# Altium integrated library Linear Technology Power Management System Supervisor, Monitor and Control.IntLib: 1611 symbols (part 23 of 100)
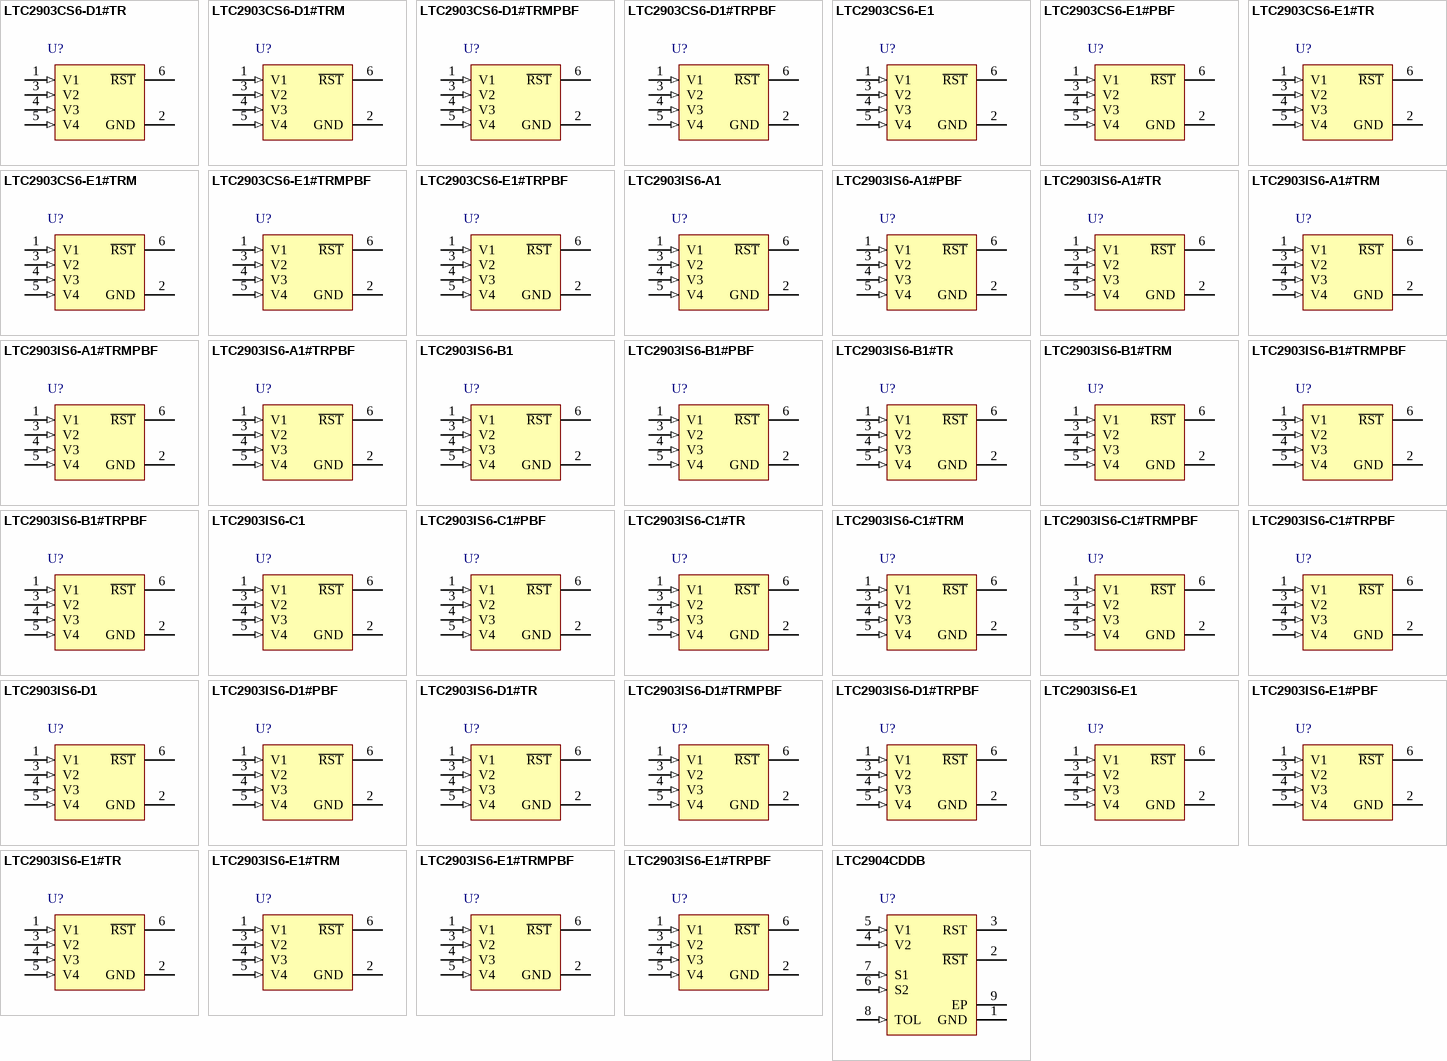
[diagram p67: symbols LTC2903CS6-D1#TR to LTC2904CDDB]

## LTC2903IS6-A1#TRM
designator U?
Precision Quad Supply Monitor, 6-pin SOT23 (S6-6), -40 to 85 degC, Mini Tape and Reel; Manufacturer: Linear Technology; PartNumber: LTC2903IS6-A1#TRM; Number of Supplies(#): 4; PackageVersion: Jun-10; PackageReference: S6-6; PackageDescription: 6-Pin Plastic TSOT-23, Body 2.9 x 1.63 mm, Pitch 0.95 mm; Supplier 1: Digi-Key; Supplier Part Number 1: LTC2903IS6-A1#TRM-ND; Packing: Mini Tape and Reel; RoHS: FALSE; Mounting Technology: Surface Mount; Code_JEDEC: MO-193; ComponentLink1Description: Manufacturer URL; ComponentLink1URL: http://www.linear.com/; ComponentLink2Description: Datasheet; ComponentLink2URL: http://cds.linear.com/docs/en/datasheet/29031fa.pdf; ComponentLink3Description: Package Specification; ComponentLink3URL: http://cds.linear.com/docs/en/packaging/SOT_6_05-08-1636.pdf
footprint LT-S6-6-TSOT-23_N (SOT23, 6-Leads, Body 2.9x1.75mm, Pitch 0.95mm, IPC Medium Density)
footprint LT-S6-6-TSOT-23_L (SOT23, 6-Leads, Body 2.9x1.75mm, Pitch 0.95mm, IPC High Density)
footprint LT-S6-6-TSOT-23_M (SOT23, 6-Leads, Body 2.9x1.75mm, Pitch 0.95mm, IPC Low Density)
pins: 1 V1 (in) "Voltage Input 1. Internal VCC is generated from the greater voltage on the V1 and V2 inputs. VCC = V1 for options D1 and E1. Bypass this pin to ground with a 0.1uF (or greater) capacitor.", 2 GND (power) "Ground.", 3 V2 (in) "Voltage Input 2. Internal VCC is generated from the greater voltage on the V1 and V2 inputs. VCC = V1 for options D1 and E1. For option A1, B1, C1 bypass this pin to ground with a 0.1uF (or greater) capacitor. V2 is an (See Datasheet)", 4 V3 (in) "Voltage Input 3. This input assists the R\S\T\ pulldown circuitry below 1V (for options A1, B1 and C1 only). V3 is an adjustable input for options D1 and E1. See Table 1b for recommended ADJ resistor values.", 5 V4 (in) "Voltage Input 4. Table 1 lists the recommended ADJ resistor values for options A1, B1 and C1. See Table 1b for options D1 and E1.", 6 ~{RST} (oc) "Reset Logic Output. Pulls low when any voltage input is below reset threshold and held low for 200ms after all voltage inputs exceed threshold. The pin contains a weak pull-up to V2 (V1 for options D1 and E1). Use an (See Datasheet)"

## LTC2903IS6-A1#TRMPBF
designator U?
Precision Quad Supply Monitor, 6-pin SOT23 (S6-6), -40 to 85 degC, Pb-Free, Mini Tape and Reel; Manufacturer: Linear Technology; PartNumber: LTC2903IS6-A1#TRMPBF; Number of Supplies(#): 4; PackageVersion: Jun-10; PackageReference: S6-6; PackageDescription: 6-Pin Plastic TSOT-23, Body 2.9 x 1.63 mm, Pitch 0.95 mm; Supplier 1: Digi-Key; Supplier Part Number 1: LTC2903IS6-A1#TRMPBFTR-ND; Supplier 2: Digi-Key; Supplier Part Number 2: LTC2903IS6-A1#TRMPBFCT-ND; Supplier 3: Digi-Key; Supplier Part Number 3: LTC2903IS6-A1#TRMPBFDKR-ND; Supplier 4: Newark; Supplier Part Number 4: 56M6641; Packing: Mini Tape and Reel; RoHS: TRUE; Mounting Technology: Surface Mount; Code_JEDEC: MO-193; ComponentLink1Description: Manufacturer URL; ComponentLink1URL: http://www.linear.com/; ComponentLink2Description: Datasheet; ComponentLink2URL: http://cds.linear.com/docs/en/datasheet/29031fa.pdf; ComponentLink3Description: Package Specification; ComponentLink3URL: http://cds.linear.com/docs/en/packaging/SOT_6_05-08-1636.pdf
footprint LT-S6-6-TSOT-23_N (SOT23, 6-Leads, Body 2.9x1.75mm, Pitch 0.95mm, IPC Medium Density)
footprint LT-S6-6-TSOT-23_L (SOT23, 6-Leads, Body 2.9x1.75mm, Pitch 0.95mm, IPC High Density)
footprint LT-S6-6-TSOT-23_M (SOT23, 6-Leads, Body 2.9x1.75mm, Pitch 0.95mm, IPC Low Density)
pins: 1 V1 (in) "Voltage Input 1. Internal VCC is generated from the greater voltage on the V1 and V2 inputs. VCC = V1 for options D1 and E1. Bypass this pin to ground with a 0.1uF (or greater) capacitor.", 2 GND (power) "Ground.", 3 V2 (in) "Voltage Input 2. Internal VCC is generated from the greater voltage on the V1 and V2 inputs. VCC = V1 for options D1 and E1. For option A1, B1, C1 bypass this pin to ground with a 0.1uF (or greater) capacitor. V2 is an (See Datasheet)", 4 V3 (in) "Voltage Input 3. This input assists the R\S\T\ pulldown circuitry below 1V (for options A1, B1 and C1 only). V3 is an adjustable input for options D1 and E1. See Table 1b for recommended ADJ resistor values.", 5 V4 (in) "Voltage Input 4. Table 1 lists the recommended ADJ resistor values for options A1, B1 and C1. See Table 1b for options D1 and E1.", 6 ~{RST} (oc) "Reset Logic Output. Pulls low when any voltage input is below reset threshold and held low for 200ms after all voltage inputs exceed threshold. The pin contains a weak pull-up to V2 (V1 for options D1 and E1). Use an (See Datasheet)"

## LTC2903IS6-A1#TRPBF
designator U?
Precision Quad Supply Monitor, 6-pin SOT23 (S6-6), -40 to 85 degC, Pb-Free, Tape and Reel; Manufacturer: Linear Technology; PartNumber: LTC2903IS6-A1#TRPBF; Number of Supplies(#): 4; PackageVersion: Jun-10; PackageReference: S6-6; PackageDescription: 6-Pin Plastic TSOT-23, Body 2.9 x 1.63 mm, Pitch 0.95 mm; Supplier 1: Digi-Key; Supplier Part Number 1: LTC2903IS6-A1#TRPBF-ND; Supplier 2: Newark; Supplier Part Number 2: 56M6642; Packing: Tape and Reel; RoHS: TRUE; Mounting Technology: Surface Mount; Code_JEDEC: MO-193; ComponentLink1Description: Manufacturer URL; ComponentLink1URL: http://www.linear.com/; ComponentLink2Description: Datasheet; ComponentLink2URL: http://cds.linear.com/docs/en/datasheet/29031fa.pdf; ComponentLink3Description: Package Specification; ComponentLink3URL: http://cds.linear.com/docs/en/packaging/SOT_6_05-08-1636.pdf
footprint LT-S6-6-TSOT-23_N (SOT23, 6-Leads, Body 2.9x1.75mm, Pitch 0.95mm, IPC Medium Density)
footprint LT-S6-6-TSOT-23_L (SOT23, 6-Leads, Body 2.9x1.75mm, Pitch 0.95mm, IPC High Density)
footprint LT-S6-6-TSOT-23_M (SOT23, 6-Leads, Body 2.9x1.75mm, Pitch 0.95mm, IPC Low Density)
pins: 1 V1 (in) "Voltage Input 1. Internal VCC is generated from the greater voltage on the V1 and V2 inputs. VCC = V1 for options D1 and E1. Bypass this pin to ground with a 0.1uF (or greater) capacitor.", 2 GND (power) "Ground.", 3 V2 (in) "Voltage Input 2. Internal VCC is generated from the greater voltage on the V1 and V2 inputs. VCC = V1 for options D1 and E1. For option A1, B1, C1 bypass this pin to ground with a 0.1uF (or greater) capacitor. V2 is an (See Datasheet)", 4 V3 (in) "Voltage Input 3. This input assists the R\S\T\ pulldown circuitry below 1V (for options A1, B1 and C1 only). V3 is an adjustable input for options D1 and E1. See Table 1b for recommended ADJ resistor values.", 5 V4 (in) "Voltage Input 4. Table 1 lists the recommended ADJ resistor values for options A1, B1 and C1. See Table 1b for options D1 and E1.", 6 ~{RST} (oc) "Reset Logic Output. Pulls low when any voltage input is below reset threshold and held low for 200ms after all voltage inputs exceed threshold. The pin contains a weak pull-up to V2 (V1 for options D1 and E1). Use an (See Datasheet)"

## LTC2903IS6-B1
designator U?
Precision Quad Supply Monitor, 6-pin SOT23 (S6-6), -40 to 85 degC; Manufacturer: Linear Technology; PartNumber: LTC2903IS6-B1; Number of Supplies(#): 4; PackageVersion: Jun-10; PackageReference: S6-6; PackageDescription: 6-Pin Plastic TSOT-23, Body 2.9 x 1.63 mm, Pitch 0.95 mm; RoHS: FALSE; Mounting Technology: Surface Mount; Code_JEDEC: MO-193; ComponentLink1Description: Manufacturer URL; ComponentLink1URL: http://www.linear.com/; ComponentLink2Description: Datasheet; ComponentLink2URL: http://cds.linear.com/docs/en/datasheet/29031fa.pdf; ComponentLink3Description: Package Specification; ComponentLink3URL: http://cds.linear.com/docs/en/packaging/SOT_6_05-08-1636.pdf
footprint LT-S6-6-TSOT-23_N (SOT23, 6-Leads, Body 2.9x1.75mm, Pitch 0.95mm, IPC Medium Density)
footprint LT-S6-6-TSOT-23_L (SOT23, 6-Leads, Body 2.9x1.75mm, Pitch 0.95mm, IPC High Density)
footprint LT-S6-6-TSOT-23_M (SOT23, 6-Leads, Body 2.9x1.75mm, Pitch 0.95mm, IPC Low Density)
pins: 1 V1 (in) "Voltage Input 1. Internal VCC is generated from the greater voltage on the V1 and V2 inputs. VCC = V1 for options D1 and E1. Bypass this pin to ground with a 0.1uF (or greater) capacitor.", 2 GND (power) "Ground.", 3 V2 (in) "Voltage Input 2. Internal VCC is generated from the greater voltage on the V1 and V2 inputs. VCC = V1 for options D1 and E1. For option A1, B1, C1 bypass this pin to ground with a 0.1uF (or greater) capacitor. V2 is an (See Datasheet)", 4 V3 (in) "Voltage Input 3. This input assists the R\S\T\ pulldown circuitry below 1V (for options A1, B1 and C1 only). V3 is an adjustable input for options D1 and E1. See Table 1b for recommended ADJ resistor values.", 5 V4 (in) "Voltage Input 4. Table 1 lists the recommended ADJ resistor values for options A1, B1 and C1. See Table 1b for options D1 and E1.", 6 ~{RST} (oc) "Reset Logic Output. Pulls low when any voltage input is below reset threshold and held low for 200ms after all voltage inputs exceed threshold. The pin contains a weak pull-up to V2 (V1 for options D1 and E1). Use an (See Datasheet)"

## LTC2903IS6-B1#PBF
designator U?
Precision Quad Supply Monitor, 6-pin SOT23 (S6-6), -40 to 85 degC, Pb-Free; Manufacturer: Linear Technology; PartNumber: LTC2903IS6-B1#PBF; Number of Supplies(#): 4; PackageVersion: Jun-10; PackageReference: S6-6; PackageDescription: 6-Pin Plastic TSOT-23, Body 2.9 x 1.63 mm, Pitch 0.95 mm; RoHS: TRUE; Mounting Technology: Surface Mount; Code_JEDEC: MO-193; ComponentLink1Description: Manufacturer URL; ComponentLink1URL: http://www.linear.com/; ComponentLink2Description: Datasheet; ComponentLink2URL: http://cds.linear.com/docs/en/datasheet/29031fa.pdf; ComponentLink3Description: Package Specification; ComponentLink3URL: http://cds.linear.com/docs/en/packaging/SOT_6_05-08-1636.pdf
footprint LT-S6-6-TSOT-23_N (SOT23, 6-Leads, Body 2.9x1.75mm, Pitch 0.95mm, IPC Medium Density)
footprint LT-S6-6-TSOT-23_L (SOT23, 6-Leads, Body 2.9x1.75mm, Pitch 0.95mm, IPC High Density)
footprint LT-S6-6-TSOT-23_M (SOT23, 6-Leads, Body 2.9x1.75mm, Pitch 0.95mm, IPC Low Density)
pins: 1 V1 (in) "Voltage Input 1. Internal VCC is generated from the greater voltage on the V1 and V2 inputs. VCC = V1 for options D1 and E1. Bypass this pin to ground with a 0.1uF (or greater) capacitor.", 2 GND (power) "Ground.", 3 V2 (in) "Voltage Input 2. Internal VCC is generated from the greater voltage on the V1 and V2 inputs. VCC = V1 for options D1 and E1. For option A1, B1, C1 bypass this pin to ground with a 0.1uF (or greater) capacitor. V2 is an (See Datasheet)", 4 V3 (in) "Voltage Input 3. This input assists the R\S\T\ pulldown circuitry below 1V (for options A1, B1 and C1 only). V3 is an adjustable input for options D1 and E1. See Table 1b for recommended ADJ resistor values.", 5 V4 (in) "Voltage Input 4. Table 1 lists the recommended ADJ resistor values for options A1, B1 and C1. See Table 1b for options D1 and E1.", 6 ~{RST} (oc) "Reset Logic Output. Pulls low when any voltage input is below reset threshold and held low for 200ms after all voltage inputs exceed threshold. The pin contains a weak pull-up to V2 (V1 for options D1 and E1). Use an (See Datasheet)"

## LTC2903IS6-B1#TR
designator U?
Precision Quad Supply Monitor, 6-pin SOT23 (S6-6), -40 to 85 degC, Tape and Reel; Manufacturer: Linear Technology; PartNumber: LTC2903IS6-B1#TR; Number of Supplies(#): 4; PackageVersion: Jun-10; PackageReference: S6-6; PackageDescription: 6-Pin Plastic TSOT-23, Body 2.9 x 1.63 mm, Pitch 0.95 mm; Supplier 1: Digi-Key; Supplier Part Number 1: LTC2903IS6-B1#TR-ND; Packing: Tape and Reel; RoHS: FALSE; Mounting Technology: Surface Mount; Code_JEDEC: MO-193; ComponentLink1Description: Manufacturer URL; ComponentLink1URL: http://www.linear.com/; ComponentLink2Description: Datasheet; ComponentLink2URL: http://cds.linear.com/docs/en/datasheet/29031fa.pdf; ComponentLink3Description: Package Specification; ComponentLink3URL: http://cds.linear.com/docs/en/packaging/SOT_6_05-08-1636.pdf
footprint LT-S6-6-TSOT-23_N (SOT23, 6-Leads, Body 2.9x1.75mm, Pitch 0.95mm, IPC Medium Density)
footprint LT-S6-6-TSOT-23_L (SOT23, 6-Leads, Body 2.9x1.75mm, Pitch 0.95mm, IPC High Density)
footprint LT-S6-6-TSOT-23_M (SOT23, 6-Leads, Body 2.9x1.75mm, Pitch 0.95mm, IPC Low Density)
pins: 1 V1 (in) "Voltage Input 1. Internal VCC is generated from the greater voltage on the V1 and V2 inputs. VCC = V1 for options D1 and E1. Bypass this pin to ground with a 0.1uF (or greater) capacitor.", 2 GND (power) "Ground.", 3 V2 (in) "Voltage Input 2. Internal VCC is generated from the greater voltage on the V1 and V2 inputs. VCC = V1 for options D1 and E1. For option A1, B1, C1 bypass this pin to ground with a 0.1uF (or greater) capacitor. V2 is an (See Datasheet)", 4 V3 (in) "Voltage Input 3. This input assists the R\S\T\ pulldown circuitry below 1V (for options A1, B1 and C1 only). V3 is an adjustable input for options D1 and E1. See Table 1b for recommended ADJ resistor values.", 5 V4 (in) "Voltage Input 4. Table 1 lists the recommended ADJ resistor values for options A1, B1 and C1. See Table 1b for options D1 and E1.", 6 ~{RST} (oc) "Reset Logic Output. Pulls low when any voltage input is below reset threshold and held low for 200ms after all voltage inputs exceed threshold. The pin contains a weak pull-up to V2 (V1 for options D1 and E1). Use an (See Datasheet)"

## LTC2903IS6-B1#TRM
designator U?
Precision Quad Supply Monitor, 6-pin SOT23 (S6-6), -40 to 85 degC, Mini Tape and Reel; Manufacturer: Linear Technology; PartNumber: LTC2903IS6-B1#TRM; Number of Supplies(#): 4; PackageVersion: Jun-10; PackageReference: S6-6; PackageDescription: 6-Pin Plastic TSOT-23, Body 2.9 x 1.63 mm, Pitch 0.95 mm; Supplier 1: Digi-Key; Supplier Part Number 1: LTC2903IS6-B1#TRM-ND; Packing: Mini Tape and Reel; RoHS: FALSE; Mounting Technology: Surface Mount; Code_JEDEC: MO-193; ComponentLink1Description: Manufacturer URL; ComponentLink1URL: http://www.linear.com/; ComponentLink2Description: Datasheet; ComponentLink2URL: http://cds.linear.com/docs/en/datasheet/29031fa.pdf; ComponentLink3Description: Package Specification; ComponentLink3URL: http://cds.linear.com/docs/en/packaging/SOT_6_05-08-1636.pdf
footprint LT-S6-6-TSOT-23_N (SOT23, 6-Leads, Body 2.9x1.75mm, Pitch 0.95mm, IPC Medium Density)
footprint LT-S6-6-TSOT-23_L (SOT23, 6-Leads, Body 2.9x1.75mm, Pitch 0.95mm, IPC High Density)
footprint LT-S6-6-TSOT-23_M (SOT23, 6-Leads, Body 2.9x1.75mm, Pitch 0.95mm, IPC Low Density)
pins: 1 V1 (in) "Voltage Input 1. Internal VCC is generated from the greater voltage on the V1 and V2 inputs. VCC = V1 for options D1 and E1. Bypass this pin to ground with a 0.1uF (or greater) capacitor.", 2 GND (power) "Ground.", 3 V2 (in) "Voltage Input 2. Internal VCC is generated from the greater voltage on the V1 and V2 inputs. VCC = V1 for options D1 and E1. For option A1, B1, C1 bypass this pin to ground with a 0.1uF (or greater) capacitor. V2 is an (See Datasheet)", 4 V3 (in) "Voltage Input 3. This input assists the R\S\T\ pulldown circuitry below 1V (for options A1, B1 and C1 only). V3 is an adjustable input for options D1 and E1. See Table 1b for recommended ADJ resistor values.", 5 V4 (in) "Voltage Input 4. Table 1 lists the recommended ADJ resistor values for options A1, B1 and C1. See Table 1b for options D1 and E1.", 6 ~{RST} (oc) "Reset Logic Output. Pulls low when any voltage input is below reset threshold and held low for 200ms after all voltage inputs exceed threshold. The pin contains a weak pull-up to V2 (V1 for options D1 and E1). Use an (See Datasheet)"

## LTC2903IS6-B1#TRMPBF
designator U?
Precision Quad Supply Monitor, 6-pin SOT23 (S6-6), -40 to 85 degC, Pb-Free, Mini Tape and Reel; Manufacturer: Linear Technology; PartNumber: LTC2903IS6-B1#TRMPBF; Number of Supplies(#): 4; PackageVersion: Jun-10; PackageReference: S6-6; PackageDescription: 6-Pin Plastic TSOT-23, Body 2.9 x 1.63 mm, Pitch 0.95 mm; Supplier 1: Digi-Key; Supplier Part Number 1: LTC2903IS6-B1#TRMPBF-ND; Packing: Mini Tape and Reel; RoHS: TRUE; Mounting Technology: Surface Mount; Code_JEDEC: MO-193; ComponentLink1Description: Manufacturer URL; ComponentLink1URL: http://www.linear.com/; ComponentLink2Description: Datasheet; ComponentLink2URL: http://cds.linear.com/docs/en/datasheet/29031fa.pdf; ComponentLink3Description: Package Specification; ComponentLink3URL: http://cds.linear.com/docs/en/packaging/SOT_6_05-08-1636.pdf
footprint LT-S6-6-TSOT-23_N (SOT23, 6-Leads, Body 2.9x1.75mm, Pitch 0.95mm, IPC Medium Density)
footprint LT-S6-6-TSOT-23_L (SOT23, 6-Leads, Body 2.9x1.75mm, Pitch 0.95mm, IPC High Density)
footprint LT-S6-6-TSOT-23_M (SOT23, 6-Leads, Body 2.9x1.75mm, Pitch 0.95mm, IPC Low Density)
pins: 1 V1 (in) "Voltage Input 1. Internal VCC is generated from the greater voltage on the V1 and V2 inputs. VCC = V1 for options D1 and E1. Bypass this pin to ground with a 0.1uF (or greater) capacitor.", 2 GND (power) "Ground.", 3 V2 (in) "Voltage Input 2. Internal VCC is generated from the greater voltage on the V1 and V2 inputs. VCC = V1 for options D1 and E1. For option A1, B1, C1 bypass this pin to ground with a 0.1uF (or greater) capacitor. V2 is an (See Datasheet)", 4 V3 (in) "Voltage Input 3. This input assists the R\S\T\ pulldown circuitry below 1V (for options A1, B1 and C1 only). V3 is an adjustable input for options D1 and E1. See Table 1b for recommended ADJ resistor values.", 5 V4 (in) "Voltage Input 4. Table 1 lists the recommended ADJ resistor values for options A1, B1 and C1. See Table 1b for options D1 and E1.", 6 ~{RST} (oc) "Reset Logic Output. Pulls low when any voltage input is below reset threshold and held low for 200ms after all voltage inputs exceed threshold. The pin contains a weak pull-up to V2 (V1 for options D1 and E1). Use an (See Datasheet)"

## LTC2903IS6-B1#TRPBF
designator U?
Precision Quad Supply Monitor, 6-pin SOT23 (S6-6), -40 to 85 degC, Pb-Free, Tape and Reel; Manufacturer: Linear Technology; PartNumber: LTC2903IS6-B1#TRPBF; Number of Supplies(#): 4; PackageVersion: Jun-10; PackageReference: S6-6; PackageDescription: 6-Pin Plastic TSOT-23, Body 2.9 x 1.63 mm, Pitch 0.95 mm; Supplier 1: Digi-Key; Supplier Part Number 1: LTC2903IS6-B1#TRPBF-ND; Packing: Tape and Reel; RoHS: TRUE; Mounting Technology: Surface Mount; Code_JEDEC: MO-193; ComponentLink1Description: Manufacturer URL; ComponentLink1URL: http://www.linear.com/; ComponentLink2Description: Datasheet; ComponentLink2URL: http://cds.linear.com/docs/en/datasheet/29031fa.pdf; ComponentLink3Description: Package Specification; ComponentLink3URL: http://cds.linear.com/docs/en/packaging/SOT_6_05-08-1636.pdf
footprint LT-S6-6-TSOT-23_N (SOT23, 6-Leads, Body 2.9x1.75mm, Pitch 0.95mm, IPC Medium Density)
footprint LT-S6-6-TSOT-23_L (SOT23, 6-Leads, Body 2.9x1.75mm, Pitch 0.95mm, IPC High Density)
footprint LT-S6-6-TSOT-23_M (SOT23, 6-Leads, Body 2.9x1.75mm, Pitch 0.95mm, IPC Low Density)
pins: 1 V1 (in) "Voltage Input 1. Internal VCC is generated from the greater voltage on the V1 and V2 inputs. VCC = V1 for options D1 and E1. Bypass this pin to ground with a 0.1uF (or greater) capacitor.", 2 GND (power) "Ground.", 3 V2 (in) "Voltage Input 2. Internal VCC is generated from the greater voltage on the V1 and V2 inputs. VCC = V1 for options D1 and E1. For option A1, B1, C1 bypass this pin to ground with a 0.1uF (or greater) capacitor. V2 is an (See Datasheet)", 4 V3 (in) "Voltage Input 3. This input assists the R\S\T\ pulldown circuitry below 1V (for options A1, B1 and C1 only). V3 is an adjustable input for options D1 and E1. See Table 1b for recommended ADJ resistor values.", 5 V4 (in) "Voltage Input 4. Table 1 lists the recommended ADJ resistor values for options A1, B1 and C1. See Table 1b for options D1 and E1.", 6 ~{RST} (oc) "Reset Logic Output. Pulls low when any voltage input is below reset threshold and held low for 200ms after all voltage inputs exceed threshold. The pin contains a weak pull-up to V2 (V1 for options D1 and E1). Use an (See Datasheet)"

## LTC2903IS6-C1
designator U?
Precision Quad Supply Monitor, 6-pin SOT23 (S6-6), -40 to 85 degC; Manufacturer: Linear Technology; PartNumber: LTC2903IS6-C1; Number of Supplies(#): 4; PackageVersion: Jun-10; PackageReference: S6-6; PackageDescription: 6-Pin Plastic TSOT-23, Body 2.9 x 1.63 mm, Pitch 0.95 mm; RoHS: FALSE; Mounting Technology: Surface Mount; Code_JEDEC: MO-193; ComponentLink1Description: Manufacturer URL; ComponentLink1URL: http://www.linear.com/; ComponentLink2Description: Datasheet; ComponentLink2URL: http://cds.linear.com/docs/en/datasheet/29031fa.pdf; ComponentLink3Description: Package Specification; ComponentLink3URL: http://cds.linear.com/docs/en/packaging/SOT_6_05-08-1636.pdf
footprint LT-S6-6-TSOT-23_N (SOT23, 6-Leads, Body 2.9x1.75mm, Pitch 0.95mm, IPC Medium Density)
footprint LT-S6-6-TSOT-23_L (SOT23, 6-Leads, Body 2.9x1.75mm, Pitch 0.95mm, IPC High Density)
footprint LT-S6-6-TSOT-23_M (SOT23, 6-Leads, Body 2.9x1.75mm, Pitch 0.95mm, IPC Low Density)
pins: 1 V1 (in) "Voltage Input 1. Internal VCC is generated from the greater voltage on the V1 and V2 inputs. VCC = V1 for options D1 and E1. Bypass this pin to ground with a 0.1uF (or greater) capacitor.", 2 GND (power) "Ground.", 3 V2 (in) "Voltage Input 2. Internal VCC is generated from the greater voltage on the V1 and V2 inputs. VCC = V1 for options D1 and E1. For option A1, B1, C1 bypass this pin to ground with a 0.1uF (or greater) capacitor. V2 is an (See Datasheet)", 4 V3 (in) "Voltage Input 3. This input assists the R\S\T\ pulldown circuitry below 1V (for options A1, B1 and C1 only). V3 is an adjustable input for options D1 and E1. See Table 1b for recommended ADJ resistor values.", 5 V4 (in) "Voltage Input 4. Table 1 lists the recommended ADJ resistor values for options A1, B1 and C1. See Table 1b for options D1 and E1.", 6 ~{RST} (oc) "Reset Logic Output. Pulls low when any voltage input is below reset threshold and held low for 200ms after all voltage inputs exceed threshold. The pin contains a weak pull-up to V2 (V1 for options D1 and E1). Use an (See Datasheet)"

## LTC2903IS6-C1#PBF
designator U?
Precision Quad Supply Monitor, 6-pin SOT23 (S6-6), -40 to 85 degC, Pb-Free; Manufacturer: Linear Technology; PartNumber: LTC2903IS6-C1#PBF; Number of Supplies(#): 4; PackageVersion: Jun-10; PackageReference: S6-6; PackageDescription: 6-Pin Plastic TSOT-23, Body 2.9 x 1.63 mm, Pitch 0.95 mm; Supplier 1: Newark; Supplier Part Number 1: 78T2992; RoHS: TRUE; Mounting Technology: Surface Mount; Code_JEDEC: MO-193; ComponentLink1Description: Manufacturer URL; ComponentLink1URL: http://www.linear.com/; ComponentLink2Description: Datasheet; ComponentLink2URL: http://cds.linear.com/docs/en/datasheet/29031fa.pdf; ComponentLink3Description: Package Specification; ComponentLink3URL: http://cds.linear.com/docs/en/packaging/SOT_6_05-08-1636.pdf
footprint LT-S6-6-TSOT-23_N (SOT23, 6-Leads, Body 2.9x1.75mm, Pitch 0.95mm, IPC Medium Density)
footprint LT-S6-6-TSOT-23_L (SOT23, 6-Leads, Body 2.9x1.75mm, Pitch 0.95mm, IPC High Density)
footprint LT-S6-6-TSOT-23_M (SOT23, 6-Leads, Body 2.9x1.75mm, Pitch 0.95mm, IPC Low Density)
pins: 1 V1 (in) "Voltage Input 1. Internal VCC is generated from the greater voltage on the V1 and V2 inputs. VCC = V1 for options D1 and E1. Bypass this pin to ground with a 0.1uF (or greater) capacitor.", 2 GND (power) "Ground.", 3 V2 (in) "Voltage Input 2. Internal VCC is generated from the greater voltage on the V1 and V2 inputs. VCC = V1 for options D1 and E1. For option A1, B1, C1 bypass this pin to ground with a 0.1uF (or greater) capacitor. V2 is an (See Datasheet)", 4 V3 (in) "Voltage Input 3. This input assists the R\S\T\ pulldown circuitry below 1V (for options A1, B1 and C1 only). V3 is an adjustable input for options D1 and E1. See Table 1b for recommended ADJ resistor values.", 5 V4 (in) "Voltage Input 4. Table 1 lists the recommended ADJ resistor values for options A1, B1 and C1. See Table 1b for options D1 and E1.", 6 ~{RST} (oc) "Reset Logic Output. Pulls low when any voltage input is below reset threshold and held low for 200ms after all voltage inputs exceed threshold. The pin contains a weak pull-up to V2 (V1 for options D1 and E1). Use an (See Datasheet)"

## LTC2903IS6-C1#TR
designator U?
Precision Quad Supply Monitor, 6-pin SOT23 (S6-6), -40 to 85 degC, Tape and Reel; Manufacturer: Linear Technology; PartNumber: LTC2903IS6-C1#TR; Number of Supplies(#): 4; PackageVersion: Jun-10; PackageReference: S6-6; PackageDescription: 6-Pin Plastic TSOT-23, Body 2.9 x 1.63 mm, Pitch 0.95 mm; Supplier 1: Digi-Key; Supplier Part Number 1: LTC2903IS6-C1#TR-ND; Packing: Tape and Reel; RoHS: FALSE; Mounting Technology: Surface Mount; Code_JEDEC: MO-193; ComponentLink1Description: Manufacturer URL; ComponentLink1URL: http://www.linear.com/; ComponentLink2Description: Datasheet; ComponentLink2URL: http://cds.linear.com/docs/en/datasheet/29031fa.pdf; ComponentLink3Description: Package Specification; ComponentLink3URL: http://cds.linear.com/docs/en/packaging/SOT_6_05-08-1636.pdf
footprint LT-S6-6-TSOT-23_N (SOT23, 6-Leads, Body 2.9x1.75mm, Pitch 0.95mm, IPC Medium Density)
footprint LT-S6-6-TSOT-23_L (SOT23, 6-Leads, Body 2.9x1.75mm, Pitch 0.95mm, IPC High Density)
footprint LT-S6-6-TSOT-23_M (SOT23, 6-Leads, Body 2.9x1.75mm, Pitch 0.95mm, IPC Low Density)
pins: 1 V1 (in) "Voltage Input 1. Internal VCC is generated from the greater voltage on the V1 and V2 inputs. VCC = V1 for options D1 and E1. Bypass this pin to ground with a 0.1uF (or greater) capacitor.", 2 GND (power) "Ground.", 3 V2 (in) "Voltage Input 2. Internal VCC is generated from the greater voltage on the V1 and V2 inputs. VCC = V1 for options D1 and E1. For option A1, B1, C1 bypass this pin to ground with a 0.1uF (or greater) capacitor. V2 is an (See Datasheet)", 4 V3 (in) "Voltage Input 3. This input assists the R\S\T\ pulldown circuitry below 1V (for options A1, B1 and C1 only). V3 is an adjustable input for options D1 and E1. See Table 1b for recommended ADJ resistor values.", 5 V4 (in) "Voltage Input 4. Table 1 lists the recommended ADJ resistor values for options A1, B1 and C1. See Table 1b for options D1 and E1.", 6 ~{RST} (oc) "Reset Logic Output. Pulls low when any voltage input is below reset threshold and held low for 200ms after all voltage inputs exceed threshold. The pin contains a weak pull-up to V2 (V1 for options D1 and E1). Use an (See Datasheet)"

## LTC2903IS6-C1#TRM
designator U?
Precision Quad Supply Monitor, 6-pin SOT23 (S6-6), -40 to 85 degC, Mini Tape and Reel; Manufacturer: Linear Technology; PartNumber: LTC2903IS6-C1#TRM; Number of Supplies(#): 4; PackageVersion: Jun-10; PackageReference: S6-6; PackageDescription: 6-Pin Plastic TSOT-23, Body 2.9 x 1.63 mm, Pitch 0.95 mm; Supplier 1: Digi-Key; Supplier Part Number 1: LTC2903IS6-C1#TRM-ND; Packing: Mini Tape and Reel; RoHS: FALSE; Mounting Technology: Surface Mount; Code_JEDEC: MO-193; ComponentLink1Description: Manufacturer URL; ComponentLink1URL: http://www.linear.com/; ComponentLink2Description: Datasheet; ComponentLink2URL: http://cds.linear.com/docs/en/datasheet/29031fa.pdf; ComponentLink3Description: Package Specification; ComponentLink3URL: http://cds.linear.com/docs/en/packaging/SOT_6_05-08-1636.pdf
footprint LT-S6-6-TSOT-23_N (SOT23, 6-Leads, Body 2.9x1.75mm, Pitch 0.95mm, IPC Medium Density)
footprint LT-S6-6-TSOT-23_L (SOT23, 6-Leads, Body 2.9x1.75mm, Pitch 0.95mm, IPC High Density)
footprint LT-S6-6-TSOT-23_M (SOT23, 6-Leads, Body 2.9x1.75mm, Pitch 0.95mm, IPC Low Density)
pins: 1 V1 (in) "Voltage Input 1. Internal VCC is generated from the greater voltage on the V1 and V2 inputs. VCC = V1 for options D1 and E1. Bypass this pin to ground with a 0.1uF (or greater) capacitor.", 2 GND (power) "Ground.", 3 V2 (in) "Voltage Input 2. Internal VCC is generated from the greater voltage on the V1 and V2 inputs. VCC = V1 for options D1 and E1. For option A1, B1, C1 bypass this pin to ground with a 0.1uF (or greater) capacitor. V2 is an (See Datasheet)", 4 V3 (in) "Voltage Input 3. This input assists the R\S\T\ pulldown circuitry below 1V (for options A1, B1 and C1 only). V3 is an adjustable input for options D1 and E1. See Table 1b for recommended ADJ resistor values.", 5 V4 (in) "Voltage Input 4. Table 1 lists the recommended ADJ resistor values for options A1, B1 and C1. See Table 1b for options D1 and E1.", 6 ~{RST} (oc) "Reset Logic Output. Pulls low when any voltage input is below reset threshold and held low for 200ms after all voltage inputs exceed threshold. The pin contains a weak pull-up to V2 (V1 for options D1 and E1). Use an (See Datasheet)"

## LTC2903IS6-C1#TRMPBF
designator U?
Precision Quad Supply Monitor, 6-pin SOT23 (S6-6), -40 to 85 degC, Pb-Free, Mini Tape and Reel; Manufacturer: Linear Technology; PartNumber: LTC2903IS6-C1#TRMPBF; Number of Supplies(#): 4; PackageVersion: Jun-10; PackageReference: S6-6; PackageDescription: 6-Pin Plastic TSOT-23, Body 2.9 x 1.63 mm, Pitch 0.95 mm; Supplier 1: Digi-Key; Supplier Part Number 1: LTC2903IS6-C1#TRMPBF-ND; Packing: Mini Tape and Reel; RoHS: TRUE; Mounting Technology: Surface Mount; Code_JEDEC: MO-193; ComponentLink1Description: Manufacturer URL; ComponentLink1URL: http://www.linear.com/; ComponentLink2Description: Datasheet; ComponentLink2URL: http://cds.linear.com/docs/en/datasheet/29031fa.pdf; ComponentLink3Description: Package Specification; ComponentLink3URL: http://cds.linear.com/docs/en/packaging/SOT_6_05-08-1636.pdf
footprint LT-S6-6-TSOT-23_N (SOT23, 6-Leads, Body 2.9x1.75mm, Pitch 0.95mm, IPC Medium Density)
footprint LT-S6-6-TSOT-23_L (SOT23, 6-Leads, Body 2.9x1.75mm, Pitch 0.95mm, IPC High Density)
footprint LT-S6-6-TSOT-23_M (SOT23, 6-Leads, Body 2.9x1.75mm, Pitch 0.95mm, IPC Low Density)
pins: 1 V1 (in) "Voltage Input 1. Internal VCC is generated from the greater voltage on the V1 and V2 inputs. VCC = V1 for options D1 and E1. Bypass this pin to ground with a 0.1uF (or greater) capacitor.", 2 GND (power) "Ground.", 3 V2 (in) "Voltage Input 2. Internal VCC is generated from the greater voltage on the V1 and V2 inputs. VCC = V1 for options D1 and E1. For option A1, B1, C1 bypass this pin to ground with a 0.1uF (or greater) capacitor. V2 is an (See Datasheet)", 4 V3 (in) "Voltage Input 3. This input assists the R\S\T\ pulldown circuitry below 1V (for options A1, B1 and C1 only). V3 is an adjustable input for options D1 and E1. See Table 1b for recommended ADJ resistor values.", 5 V4 (in) "Voltage Input 4. Table 1 lists the recommended ADJ resistor values for options A1, B1 and C1. See Table 1b for options D1 and E1.", 6 ~{RST} (oc) "Reset Logic Output. Pulls low when any voltage input is below reset threshold and held low for 200ms after all voltage inputs exceed threshold. The pin contains a weak pull-up to V2 (V1 for options D1 and E1). Use an (See Datasheet)"

## LTC2903IS6-C1#TRPBF
designator U?
Precision Quad Supply Monitor, 6-pin SOT23 (S6-6), -40 to 85 degC, Pb-Free, Tape and Reel; Manufacturer: Linear Technology; PartNumber: LTC2903IS6-C1#TRPBF; Number of Supplies(#): 4; PackageVersion: Jun-10; PackageReference: S6-6; PackageDescription: 6-Pin Plastic TSOT-23, Body 2.9 x 1.63 mm, Pitch 0.95 mm; Supplier 1: Digi-Key; Supplier Part Number 1: LTC2903IS6-C1#TRPBF-ND; Packing: Tape and Reel; RoHS: TRUE; Mounting Technology: Surface Mount; Code_JEDEC: MO-193; ComponentLink1Description: Manufacturer URL; ComponentLink1URL: http://www.linear.com/; ComponentLink2Description: Datasheet; ComponentLink2URL: http://cds.linear.com/docs/en/datasheet/29031fa.pdf; ComponentLink3Description: Package Specification; ComponentLink3URL: http://cds.linear.com/docs/en/packaging/SOT_6_05-08-1636.pdf
footprint LT-S6-6-TSOT-23_N (SOT23, 6-Leads, Body 2.9x1.75mm, Pitch 0.95mm, IPC Medium Density)
footprint LT-S6-6-TSOT-23_L (SOT23, 6-Leads, Body 2.9x1.75mm, Pitch 0.95mm, IPC High Density)
footprint LT-S6-6-TSOT-23_M (SOT23, 6-Leads, Body 2.9x1.75mm, Pitch 0.95mm, IPC Low Density)
pins: 1 V1 (in) "Voltage Input 1. Internal VCC is generated from the greater voltage on the V1 and V2 inputs. VCC = V1 for options D1 and E1. Bypass this pin to ground with a 0.1uF (or greater) capacitor.", 2 GND (power) "Ground.", 3 V2 (in) "Voltage Input 2. Internal VCC is generated from the greater voltage on the V1 and V2 inputs. VCC = V1 for options D1 and E1. For option A1, B1, C1 bypass this pin to ground with a 0.1uF (or greater) capacitor. V2 is an (See Datasheet)", 4 V3 (in) "Voltage Input 3. This input assists the R\S\T\ pulldown circuitry below 1V (for options A1, B1 and C1 only). V3 is an adjustable input for options D1 and E1. See Table 1b for recommended ADJ resistor values.", 5 V4 (in) "Voltage Input 4. Table 1 lists the recommended ADJ resistor values for options A1, B1 and C1. See Table 1b for options D1 and E1.", 6 ~{RST} (oc) "Reset Logic Output. Pulls low when any voltage input is below reset threshold and held low for 200ms after all voltage inputs exceed threshold. The pin contains a weak pull-up to V2 (V1 for options D1 and E1). Use an (See Datasheet)"

## LTC2903IS6-D1
designator U?
Precision Quad Supply Monitor, 6-pin SOT23 (S6-6), -40 to 85 degC; Manufacturer: Linear Technology; PartNumber: LTC2903IS6-D1; Number of Supplies(#): 4; PackageVersion: Jun-10; PackageReference: S6-6; PackageDescription: 6-Pin Plastic TSOT-23, Body 2.9 x 1.63 mm, Pitch 0.95 mm; RoHS: FALSE; Mounting Technology: Surface Mount; Code_JEDEC: MO-193; ComponentLink1Description: Manufacturer URL; ComponentLink1URL: http://www.linear.com/; ComponentLink2Description: Datasheet; ComponentLink2URL: http://cds.linear.com/docs/en/datasheet/29031fa.pdf; ComponentLink3Description: Package Specification; ComponentLink3URL: http://cds.linear.com/docs/en/packaging/SOT_6_05-08-1636.pdf
footprint LT-S6-6-TSOT-23_N (SOT23, 6-Leads, Body 2.9x1.75mm, Pitch 0.95mm, IPC Medium Density)
footprint LT-S6-6-TSOT-23_L (SOT23, 6-Leads, Body 2.9x1.75mm, Pitch 0.95mm, IPC High Density)
footprint LT-S6-6-TSOT-23_M (SOT23, 6-Leads, Body 2.9x1.75mm, Pitch 0.95mm, IPC Low Density)
pins: 1 V1 (in) "Voltage Input 1. Internal VCC is generated from the greater voltage on the V1 and V2 inputs. VCC = V1 for options D1 and E1. Bypass this pin to ground with a 0.1uF (or greater) capacitor.", 2 GND (power) "Ground.", 3 V2 (in) "Voltage Input 2. Internal VCC is generated from the greater voltage on the V1 and V2 inputs. VCC = V1 for options D1 and E1. For option A1, B1, C1 bypass this pin to ground with a 0.1uF (or greater) capacitor. V2 is an (See Datasheet)", 4 V3 (in) "Voltage Input 3. This input assists the R\S\T\ pulldown circuitry below 1V (for options A1, B1 and C1 only). V3 is an adjustable input for options D1 and E1. See Table 1b for recommended ADJ resistor values.", 5 V4 (in) "Voltage Input 4. Table 1 lists the recommended ADJ resistor values for options A1, B1 and C1. See Table 1b for options D1 and E1.", 6 ~{RST} (oc) "Reset Logic Output. Pulls low when any voltage input is below reset threshold and held low for 200ms after all voltage inputs exceed threshold. The pin contains a weak pull-up to V2 (V1 for options D1 and E1). Use an (See Datasheet)"

## LTC2903IS6-D1#PBF
designator U?
Precision Quad Supply Monitor, 6-pin SOT23 (S6-6), -40 to 85 degC, Pb-Free; Manufacturer: Linear Technology; PartNumber: LTC2903IS6-D1#PBF; Number of Supplies(#): 4; PackageVersion: Jun-10; PackageReference: S6-6; PackageDescription: 6-Pin Plastic TSOT-23, Body 2.9 x 1.63 mm, Pitch 0.95 mm; Supplier 1: Farnell; Supplier Part Number 1: 2295407; Supplier 2: Newark; Supplier Part Number 2: 58R2532; RoHS: TRUE; Mounting Technology: Surface Mount; Code_JEDEC: MO-193; ComponentLink1Description: Manufacturer URL; ComponentLink1URL: http://www.linear.com/; ComponentLink2Description: Datasheet; ComponentLink2URL: http://cds.linear.com/docs/en/datasheet/29031fa.pdf; ComponentLink3Description: Package Specification; ComponentLink3URL: http://cds.linear.com/docs/en/packaging/SOT_6_05-08-1636.pdf
footprint LT-S6-6-TSOT-23_N (SOT23, 6-Leads, Body 2.9x1.75mm, Pitch 0.95mm, IPC Medium Density)
footprint LT-S6-6-TSOT-23_L (SOT23, 6-Leads, Body 2.9x1.75mm, Pitch 0.95mm, IPC High Density)
footprint LT-S6-6-TSOT-23_M (SOT23, 6-Leads, Body 2.9x1.75mm, Pitch 0.95mm, IPC Low Density)
pins: 1 V1 (in) "Voltage Input 1. Internal VCC is generated from the greater voltage on the V1 and V2 inputs. VCC = V1 for options D1 and E1. Bypass this pin to ground with a 0.1uF (or greater) capacitor.", 2 GND (power) "Ground.", 3 V2 (in) "Voltage Input 2. Internal VCC is generated from the greater voltage on the V1 and V2 inputs. VCC = V1 for options D1 and E1. For option A1, B1, C1 bypass this pin to ground with a 0.1uF (or greater) capacitor. V2 is an (See Datasheet)", 4 V3 (in) "Voltage Input 3. This input assists the R\S\T\ pulldown circuitry below 1V (for options A1, B1 and C1 only). V3 is an adjustable input for options D1 and E1. See Table 1b for recommended ADJ resistor values.", 5 V4 (in) "Voltage Input 4. Table 1 lists the recommended ADJ resistor values for options A1, B1 and C1. See Table 1b for options D1 and E1.", 6 ~{RST} (oc) "Reset Logic Output. Pulls low when any voltage input is below reset threshold and held low for 200ms after all voltage inputs exceed threshold. The pin contains a weak pull-up to V2 (V1 for options D1 and E1). Use an (See Datasheet)"

## LTC2903IS6-D1#TR
designator U?
Precision Quad Supply Monitor, 6-pin SOT23 (S6-6), -40 to 85 degC, Tape and Reel; Manufacturer: Linear Technology; PartNumber: LTC2903IS6-D1#TR; Number of Supplies(#): 4; PackageVersion: Jun-10; PackageReference: S6-6; PackageDescription: 6-Pin Plastic TSOT-23, Body 2.9 x 1.63 mm, Pitch 0.95 mm; Packing: Tape and Reel; RoHS: FALSE; Mounting Technology: Surface Mount; Code_JEDEC: MO-193; ComponentLink1Description: Manufacturer URL; ComponentLink1URL: http://www.linear.com/; ComponentLink2Description: Datasheet; ComponentLink2URL: http://cds.linear.com/docs/en/datasheet/29031fa.pdf; ComponentLink3Description: Package Specification; ComponentLink3URL: http://cds.linear.com/docs/en/packaging/SOT_6_05-08-1636.pdf
footprint LT-S6-6-TSOT-23_N (SOT23, 6-Leads, Body 2.9x1.75mm, Pitch 0.95mm, IPC Medium Density)
footprint LT-S6-6-TSOT-23_L (SOT23, 6-Leads, Body 2.9x1.75mm, Pitch 0.95mm, IPC High Density)
footprint LT-S6-6-TSOT-23_M (SOT23, 6-Leads, Body 2.9x1.75mm, Pitch 0.95mm, IPC Low Density)
pins: 1 V1 (in) "Voltage Input 1. Internal VCC is generated from the greater voltage on the V1 and V2 inputs. VCC = V1 for options D1 and E1. Bypass this pin to ground with a 0.1uF (or greater) capacitor.", 2 GND (power) "Ground.", 3 V2 (in) "Voltage Input 2. Internal VCC is generated from the greater voltage on the V1 and V2 inputs. VCC = V1 for options D1 and E1. For option A1, B1, C1 bypass this pin to ground with a 0.1uF (or greater) capacitor. V2 is an (See Datasheet)", 4 V3 (in) "Voltage Input 3. This input assists the R\S\T\ pulldown circuitry below 1V (for options A1, B1 and C1 only). V3 is an adjustable input for options D1 and E1. See Table 1b for recommended ADJ resistor values.", 5 V4 (in) "Voltage Input 4. Table 1 lists the recommended ADJ resistor values for options A1, B1 and C1. See Table 1b for options D1 and E1.", 6 ~{RST} (oc) "Reset Logic Output. Pulls low when any voltage input is below reset threshold and held low for 200ms after all voltage inputs exceed threshold. The pin contains a weak pull-up to V2 (V1 for options D1 and E1). Use an (See Datasheet)"

## LTC2903IS6-D1#TRMPBF
designator U?
Precision Quad Supply Monitor, 6-pin SOT23 (S6-6), -40 to 85 degC, Pb-Free, Mini Tape and Reel; Manufacturer: Linear Technology; PartNumber: LTC2903IS6-D1#TRMPBF; Number of Supplies(#): 4; PackageVersion: Jun-10; PackageReference: S6-6; PackageDescription: 6-Pin Plastic TSOT-23, Body 2.9 x 1.63 mm, Pitch 0.95 mm; Supplier 1: Digi-Key; Supplier Part Number 1: LTC2903IS6-D1#TRMPBFTR-ND; Supplier 2: Digi-Key; Supplier Part Number 2: LTC2903IS6-D1#TRMPBFCT-ND; Supplier 3: Digi-Key; Supplier Part Number 3: LTC2903IS6-D1#TRMPBFDKR-ND; Supplier 4: Newark; Supplier Part Number 4: 56M6653; Packing: Mini Tape and Reel; RoHS: TRUE; Mounting Technology: Surface Mount; Code_JEDEC: MO-193; ComponentLink1Description: Manufacturer URL; ComponentLink1URL: http://www.linear.com/; ComponentLink2Description: Datasheet; ComponentLink2URL: http://cds.linear.com/docs/en/datasheet/29031fa.pdf; ComponentLink3Description: Package Specification; ComponentLink3URL: http://cds.linear.com/docs/en/packaging/SOT_6_05-08-1636.pdf
footprint LT-S6-6-TSOT-23_N (SOT23, 6-Leads, Body 2.9x1.75mm, Pitch 0.95mm, IPC Medium Density)
footprint LT-S6-6-TSOT-23_L (SOT23, 6-Leads, Body 2.9x1.75mm, Pitch 0.95mm, IPC High Density)
footprint LT-S6-6-TSOT-23_M (SOT23, 6-Leads, Body 2.9x1.75mm, Pitch 0.95mm, IPC Low Density)
pins: 1 V1 (in) "Voltage Input 1. Internal VCC is generated from the greater voltage on the V1 and V2 inputs. VCC = V1 for options D1 and E1. Bypass this pin to ground with a 0.1uF (or greater) capacitor.", 2 GND (power) "Ground.", 3 V2 (in) "Voltage Input 2. Internal VCC is generated from the greater voltage on the V1 and V2 inputs. VCC = V1 for options D1 and E1. For option A1, B1, C1 bypass this pin to ground with a 0.1uF (or greater) capacitor. V2 is an (See Datasheet)", 4 V3 (in) "Voltage Input 3. This input assists the R\S\T\ pulldown circuitry below 1V (for options A1, B1 and C1 only). V3 is an adjustable input for options D1 and E1. See Table 1b for recommended ADJ resistor values.", 5 V4 (in) "Voltage Input 4. Table 1 lists the recommended ADJ resistor values for options A1, B1 and C1. See Table 1b for options D1 and E1.", 6 ~{RST} (oc) "Reset Logic Output. Pulls low when any voltage input is below reset threshold and held low for 200ms after all voltage inputs exceed threshold. The pin contains a weak pull-up to V2 (V1 for options D1 and E1). Use an (See Datasheet)"

## LTC2903IS6-D1#TRPBF
designator U?
Precision Quad Supply Monitor, 6-pin SOT23 (S6-6), -40 to 85 degC, Pb-Free, Tape and Reel; Manufacturer: Linear Technology; PartNumber: LTC2903IS6-D1#TRPBF; Number of Supplies(#): 4; PackageVersion: Jun-10; PackageReference: S6-6; PackageDescription: 6-Pin Plastic TSOT-23, Body 2.9 x 1.63 mm, Pitch 0.95 mm; Supplier 1: Digi-Key; Supplier Part Number 1: LTC2903IS6-D1#TRPBF-ND; Supplier 2: Newark; Supplier Part Number 2: 56M6654; Packing: Tape and Reel; RoHS: TRUE; Mounting Technology: Surface Mount; Code_JEDEC: MO-193; ComponentLink1Description: Manufacturer URL; ComponentLink1URL: http://www.linear.com/; ComponentLink2Description: Datasheet; ComponentLink2URL: http://cds.linear.com/docs/en/datasheet/29031fa.pdf; ComponentLink3Description: Package Specification; ComponentLink3URL: http://cds.linear.com/docs/en/packaging/SOT_6_05-08-1636.pdf
footprint LT-S6-6-TSOT-23_N (SOT23, 6-Leads, Body 2.9x1.75mm, Pitch 0.95mm, IPC Medium Density)
footprint LT-S6-6-TSOT-23_L (SOT23, 6-Leads, Body 2.9x1.75mm, Pitch 0.95mm, IPC High Density)
footprint LT-S6-6-TSOT-23_M (SOT23, 6-Leads, Body 2.9x1.75mm, Pitch 0.95mm, IPC Low Density)
pins: 1 V1 (in) "Voltage Input 1. Internal VCC is generated from the greater voltage on the V1 and V2 inputs. VCC = V1 for options D1 and E1. Bypass this pin to ground with a 0.1uF (or greater) capacitor.", 2 GND (power) "Ground.", 3 V2 (in) "Voltage Input 2. Internal VCC is generated from the greater voltage on the V1 and V2 inputs. VCC = V1 for options D1 and E1. For option A1, B1, C1 bypass this pin to ground with a 0.1uF (or greater) capacitor. V2 is an (See Datasheet)", 4 V3 (in) "Voltage Input 3. This input assists the R\S\T\ pulldown circuitry below 1V (for options A1, B1 and C1 only). V3 is an adjustable input for options D1 and E1. See Table 1b for recommended ADJ resistor values.", 5 V4 (in) "Voltage Input 4. Table 1 lists the recommended ADJ resistor values for options A1, B1 and C1. See Table 1b for options D1 and E1.", 6 ~{RST} (oc) "Reset Logic Output. Pulls low when any voltage input is below reset threshold and held low for 200ms after all voltage inputs exceed threshold. The pin contains a weak pull-up to V2 (V1 for options D1 and E1). Use an (See Datasheet)"

## LTC2903IS6-E1
designator U?
Precision Quad Supply Monitor, 6-pin SOT23 (S6-6), -40 to 85 degC; Manufacturer: Linear Technology; PartNumber: LTC2903IS6-E1; Number of Supplies(#): 4; PackageVersion: Jun-10; PackageReference: S6-6; PackageDescription: 6-Pin Plastic TSOT-23, Body 2.9 x 1.63 mm, Pitch 0.95 mm; RoHS: FALSE; Mounting Technology: Surface Mount; Code_JEDEC: MO-193; ComponentLink1Description: Manufacturer URL; ComponentLink1URL: http://www.linear.com/; ComponentLink2Description: Datasheet; ComponentLink2URL: http://cds.linear.com/docs/en/datasheet/29031fa.pdf; ComponentLink3Description: Package Specification; ComponentLink3URL: http://cds.linear.com/docs/en/packaging/SOT_6_05-08-1636.pdf
footprint LT-S6-6-TSOT-23_N (SOT23, 6-Leads, Body 2.9x1.75mm, Pitch 0.95mm, IPC Medium Density)
footprint LT-S6-6-TSOT-23_L (SOT23, 6-Leads, Body 2.9x1.75mm, Pitch 0.95mm, IPC High Density)
footprint LT-S6-6-TSOT-23_M (SOT23, 6-Leads, Body 2.9x1.75mm, Pitch 0.95mm, IPC Low Density)
pins: 1 V1 (in) "Voltage Input 1. Internal VCC is generated from the greater voltage on the V1 and V2 inputs. VCC = V1 for options D1 and E1. Bypass this pin to ground with a 0.1uF (or greater) capacitor.", 2 GND (power) "Ground.", 3 V2 (in) "Voltage Input 2. Internal VCC is generated from the greater voltage on the V1 and V2 inputs. VCC = V1 for options D1 and E1. For option A1, B1, C1 bypass this pin to ground with a 0.1uF (or greater) capacitor. V2 is an (See Datasheet)", 4 V3 (in) "Voltage Input 3. This input assists the R\S\T\ pulldown circuitry below 1V (for options A1, B1 and C1 only). V3 is an adjustable input for options D1 and E1. See Table 1b for recommended ADJ resistor values.", 5 V4 (in) "Voltage Input 4. Table 1 lists the recommended ADJ resistor values for options A1, B1 and C1. See Table 1b for options D1 and E1.", 6 ~{RST} (oc) "Reset Logic Output. Pulls low when any voltage input is below reset threshold and held low for 200ms after all voltage inputs exceed threshold. The pin contains a weak pull-up to V2 (V1 for options D1 and E1). Use an (See Datasheet)"

## LTC2903IS6-E1#PBF
designator U?
Precision Quad Supply Monitor, 6-pin SOT23 (S6-6), -40 to 85 degC, Pb-Free; Manufacturer: Linear Technology; PartNumber: LTC2903IS6-E1#PBF; Number of Supplies(#): 4; PackageVersion: Jun-10; PackageReference: S6-6; PackageDescription: 6-Pin Plastic TSOT-23, Body 2.9 x 1.63 mm, Pitch 0.95 mm; Supplier 1: Newark; Supplier Part Number 1: 78T2993; RoHS: TRUE; Mounting Technology: Surface Mount; Code_JEDEC: MO-193; ComponentLink1Description: Manufacturer URL; ComponentLink1URL: http://www.linear.com/; ComponentLink2Description: Datasheet; ComponentLink2URL: http://cds.linear.com/docs/en/datasheet/29031fa.pdf; ComponentLink3Description: Package Specification; ComponentLink3URL: http://cds.linear.com/docs/en/packaging/SOT_6_05-08-1636.pdf
footprint LT-S6-6-TSOT-23_N (SOT23, 6-Leads, Body 2.9x1.75mm, Pitch 0.95mm, IPC Medium Density)
footprint LT-S6-6-TSOT-23_L (SOT23, 6-Leads, Body 2.9x1.75mm, Pitch 0.95mm, IPC High Density)
footprint LT-S6-6-TSOT-23_M (SOT23, 6-Leads, Body 2.9x1.75mm, Pitch 0.95mm, IPC Low Density)
pins: 1 V1 (in) "Voltage Input 1. Internal VCC is generated from the greater voltage on the V1 and V2 inputs. VCC = V1 for options D1 and E1. Bypass this pin to ground with a 0.1uF (or greater) capacitor.", 2 GND (power) "Ground.", 3 V2 (in) "Voltage Input 2. Internal VCC is generated from the greater voltage on the V1 and V2 inputs. VCC = V1 for options D1 and E1. For option A1, B1, C1 bypass this pin to ground with a 0.1uF (or greater) capacitor. V2 is an (See Datasheet)", 4 V3 (in) "Voltage Input 3. This input assists the R\S\T\ pulldown circuitry below 1V (for options A1, B1 and C1 only). V3 is an adjustable input for options D1 and E1. See Table 1b for recommended ADJ resistor values.", 5 V4 (in) "Voltage Input 4. Table 1 lists the recommended ADJ resistor values for options A1, B1 and C1. See Table 1b for options D1 and E1.", 6 ~{RST} (oc) "Reset Logic Output. Pulls low when any voltage input is below reset threshold and held low for 200ms after all voltage inputs exceed threshold. The pin contains a weak pull-up to V2 (V1 for options D1 and E1). Use an (See Datasheet)"